# Altium footprint library FIGARO.PcbLib: 3 footprints
Each footprint in its own frame and in the unit in brackets; x right, y up, seen from the top. Pads: shape width x height; smd on the part's side, far side on the other; paste and mask are expansions set on the pad; w line width, h text height; cw(c..) or ccw(c..) is an arc to the next point about the centre after c.
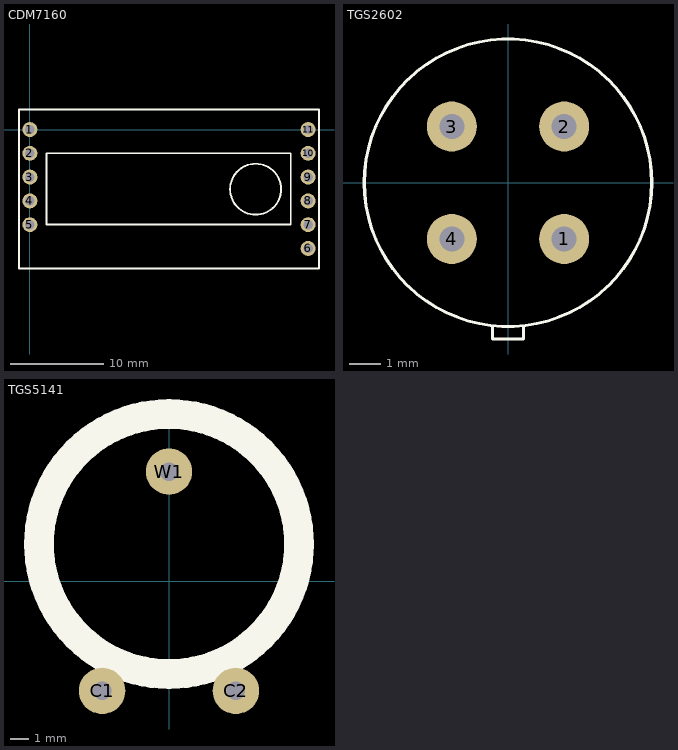
[diagram p0: the footprints below, top view; thin cyan lines are the x and y axes]

## CDM7160 [mm] "CO2 sensor"
pads (11):
  round 1.6 hole 1: 1(0,0) 2(0,-2.54) 3(0,-5.08) 4(0,-7.62) 5(0,-10.16) 6(29.7,-12.7) 7(29.7,-10.16) 8(29.7,-7.62) 9(29.7,-5.08) 10(29.7,-2.54) 11(29.7,0)
Top Overlay:
  circle w0.2: c24.095,-6.37 r2.721
  lines w0.2: 29.7,0 29.711,0 ; -1.161,-14.85 -1.161,-10.16 -1.161,0 -1.161,2.15 0,2.15 29.711,2.15 30.861,2.15 30.861,0 30.861,-12.7 30.861,-14.85 29.7,-14.85 -1.161,-14.85 ; 1.779,-10.159 1.779,-2.538 27.846,-2.538 27.846,-10.159 1.779,-10.159
3D body: height 8.74, standoff 4.14, extent 21.366,-9.099 26.824,-3.641
3D body: height 7.74, standoff 4.14, extent 1.78,-10.158 27.845,-2.539
3D body: height 4.14, standoff 1.54, extent -1.211,-14.9 30.911,2.2

## TGS2602 [mm]
pads (4):
  round 1.6 hole 0.8: 1(1.8,-1.8) 2(1.8,1.8) 3(-1.8,1.8) 4(-1.8,-1.8)
Top Overlay:
  circle w0.1: c0,0 r4.6
  lines w0.1: -0.5,-4.6 -0.5,-5 0.5,-5 0.5,-4.6
3D body: height 7.8, standoff 0, extent -4.609,-4.609 4.609,4.609

## TGS5141 [mm]
pads (3):
  round 2.5 hole 1: C1(-3.6,-5.9) C2(3.6,-5.9) W1(0,5.9)
Top Overlay:
  circle w1.6: c0,2 r7
3D body: height 7.5, standoff 0, extent -7.011,-5.011 7.011,9.011